# EAGLE library part AGQ20003 (library SCARA)
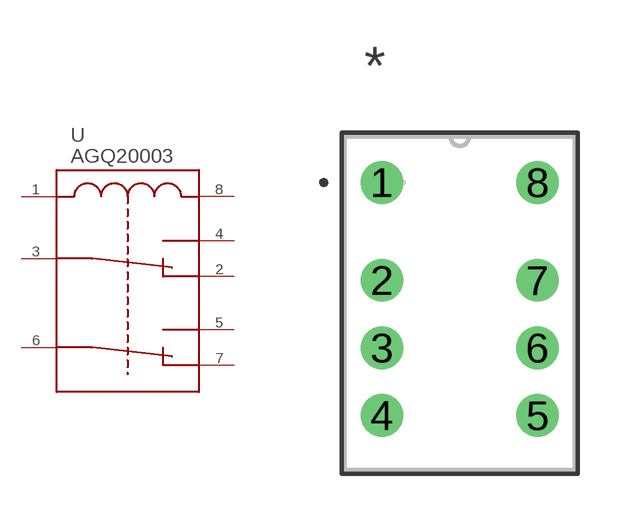
[diagram p0: symbol with the pads of RELAY_AGQ_PAN; footprint RELAY_AGQ_PAN]

Designator prefix U

## AGQ20003 (BUILT_BY: EMA_UL_Team; MANUFACTURER_PART_NUMBER: AGQ20003; SOURCELIBRARY: Panasonic_2008-01-01; VENDOR: Panasonic)  [RELAY_AGQ_PAN]
1  1  pas
2  2  pas
3  3  pas
4  4  pas
5  5  pas
6  6  pas
7  7  pas
8  8  pas

## Footprint RELAY_AGQ_PAN (pad centres in mm)
drill 0.889 pad 1.397: 1 0,0; 2 0,-3.2; 3 0,-5.41; 4 0,-7.62; 5 5.08,-7.62; 6 5.08,-5.41; 7 5.08,-3.2; 8 5.08,0